# Altium footprint library NRH2412T100MNGH.PcbLib: 1 footprints
Each footprint in its own frame and in the unit in brackets; x right, y up, seen from the top. Pads: shape width x height; smd on the part's side, far side on the other; paste and mask are expansions set on the pad; w line width, h text height; cw(c..) or ccw(c..) is an arc to the next point about the centre after c.
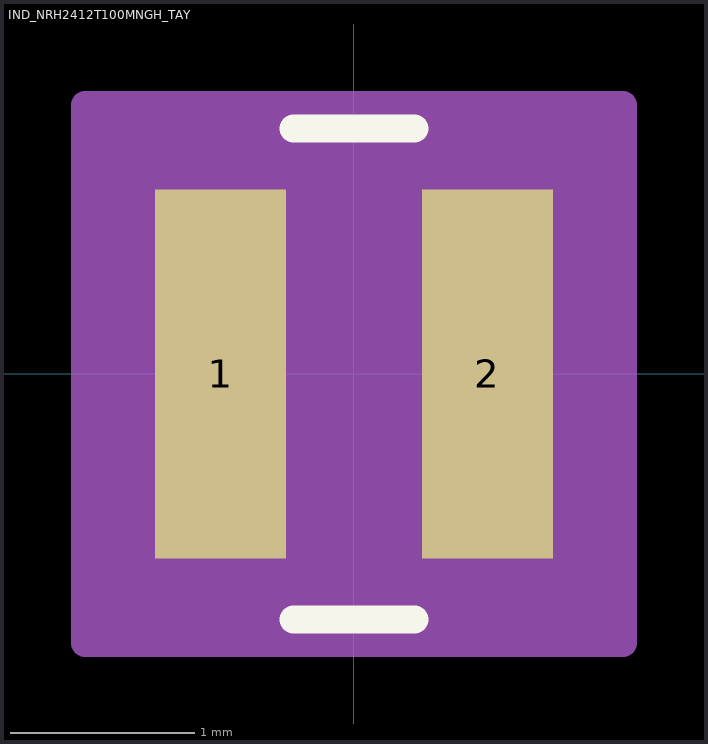
[diagram p0: the footprint, top view; thin cyan lines are the x and y axes]

## IND_NRH2412T100MNGH_TAY [mil]
pads (2):
  rect 28x79 smd paste+0 mask+0: 1(-28.54,0) 2(28.54,0)
Top Overlay:
  lines w6: -12.93,-52.5 12.93,-52.5 ; -12.93,52.5 12.93,52.5
Mechanical 13:
  lines w1: -47.5,-23.75 -23.75,-47.5 23.75,-47.5 47.5,-23.75 47.5,23.75 23.75,47.5 -23.75,47.5 -47.5,23.75 -47.5,-23.75
  text "*" at -40,-50 h50
Mechanical 15:
  region: 57.5,-57.5 -57.5,-57.5 -57.5,57.5 57.5,57.5
  lines w6: -57.5,-57.5 57.5,-57.5 57.5,57.5 -57.5,57.5 -57.5,-57.5